# Altium schematic symbol library SCH - ARM CORTEX - STM STM8L101K3Ux.SchLib: 1 symbol
Pins are listed as number, name and electrical type; pins without a type are passive.

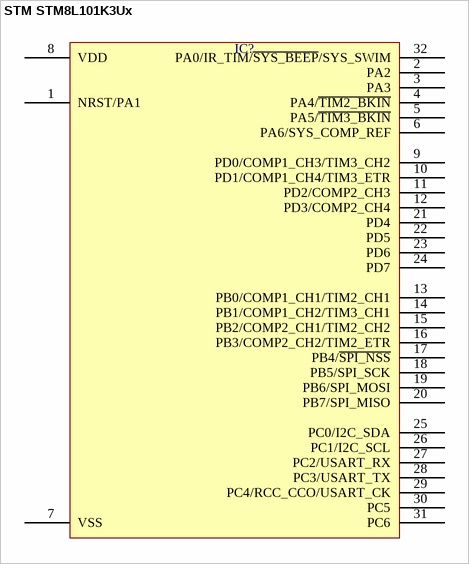
[diagram p0: symbol STM STM8L101K3Ux]

## STM STM8L101K3Ux
designator IC?  (value not drawn)
pins: 1 NRST/PA1, 2 PA2, 3 PA3, 4 PA4/~{TIM2_BKIN}, 5 PA5/~{TIM3_BKIN}, 6 PA6/SYS_COMP_REF, 7 VSS, 8 VDD, 9 PD0/COMP1_CH3/TIM3_CH2, 10 PD1/COMP1_CH4/TIM3_ETR, 11 PD2/COMP2_CH3, 12 PD3/COMP2_CH4, 13 PB0/COMP1_CH1/TIM2_CH1, 14 PB1/COMP1_CH2/TIM3_CH1, 15 PB2/COMP2_CH1/TIM2_CH2, 16 PB3/COMP2_CH2/TIM2_ETR, 17 PB4/~{SPI_NSS}, 18 PB5/SPI_SCK, 19 PB6/SPI_MOSI, 20 PB7/SPI_MISO, 21 PD4, 22 PD5, 23 PD6, 24 PD7, 25 PC0/I2C_SDA, 26 PC1/I2C_SCL, 27 PC2/USART_RX, 28 PC3/USART_TX, 29 PC4/RCC_CCO/USART_CK, 30 PC5, 31 PC6, 32 PA0/IR_TIM/~{SYS_BEEP}/SYS_SWIM